# Altium schematic symbol library CRCW1206681RFKEA.SchLib: 1 symbol
Pins are listed as number, name and electrical type; pins without a type are passive.

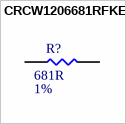
[diagram p0: symbol CRCW1206681RFKEA]

## CRCW1206681RFKEA
designator R?  Tolerance: 1%  Resistance: 681R  (hidden comment: CRCW1206681RFKEA)
Thick Film Resistors - SMD 1/4watt 681ohms 1%; MFR: Vishay; PN: CRCW120612K1FKEA; Qualifications: AEC-Q200; Power Rating: 1/4W; ComponentLink1Description: Datasheet; ComponentLink1URL: https://www.mouser.ca/datasheet/2/427/dcrcwe3-1762152.pdf; Footprint: RES1206; Package: 1206; Supplier 1: Digi-Key; Supplier Part Number 1: 541-681FCT-ND
pins: 1, 2